# Altium footprint library minireg.PcbLib: 9 footprints
Each footprint in its own frame and in the unit in brackets; x right, y up, seen from the top. Pads: shape width x height; smd on the part's side, far side on the other; paste and mask are expansions set on the pad; w line width, h text height; cw(c..) or ccw(c..) is an arc to the next point about the centre after c.
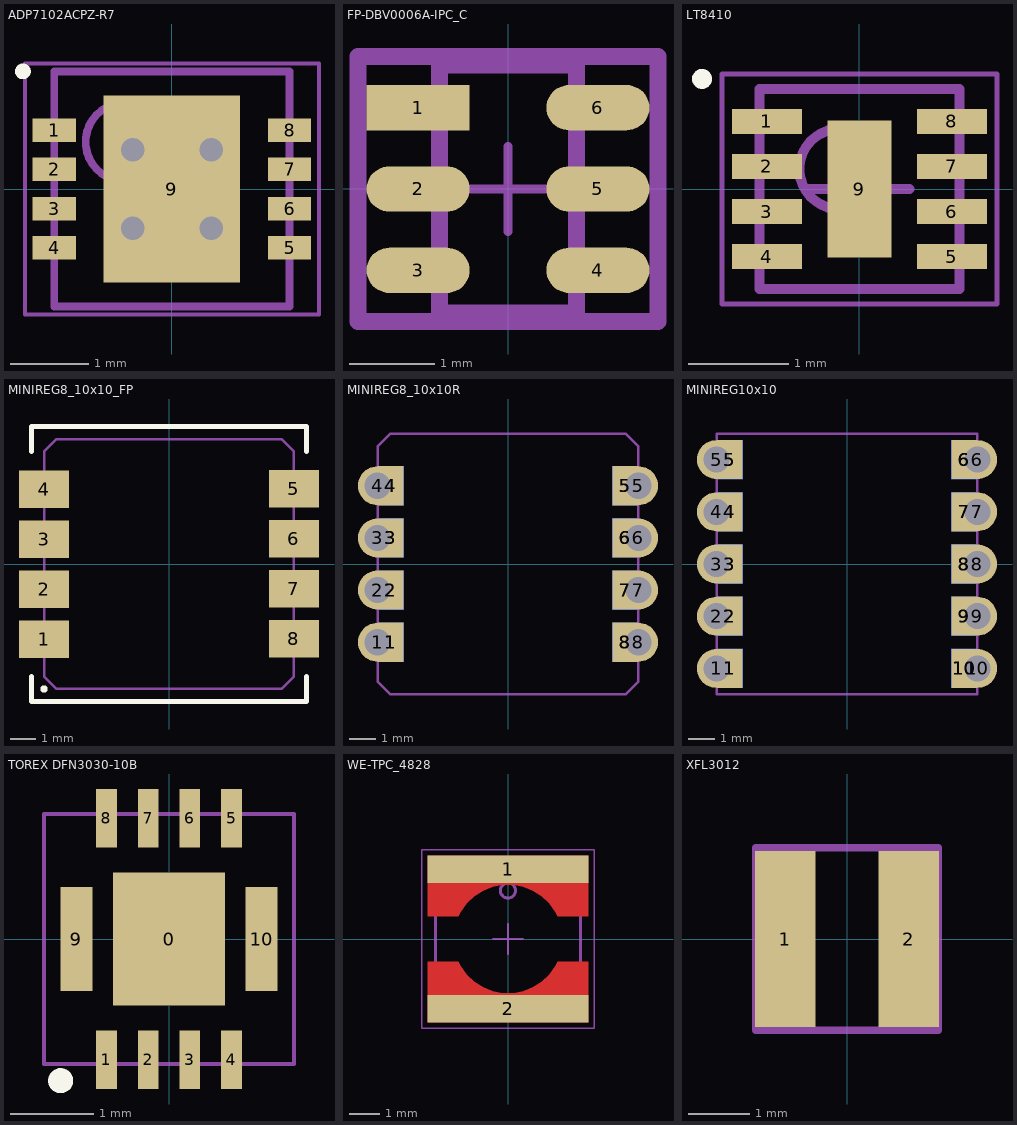
[diagram p0: the footprints below, top view; thin cyan lines are the x and y axes]

## ADP7102ACPZ-R7 [mm] "SON, 8-Leads, Body 3x3mm, Pitch 0.5mm, Thermal Pad 1.74x2.38mm"
height 0.8
pads (9):
  rect 0.55x0.3 smd mask+0.05: 1(-1.5,0.75) 2(-1.5,0.25) 3(-1.5,-0.25) 4(-1.5,-0.75) 5(1.5,-0.75) 6(1.5,-0.25) 7(1.5,0.25) 8(1.5,0.75)
  rect 1.74x2.38 smd mask+0.05: 9(0,0)
via -0.5,0.5 diameter 0.6 hole 0.3
via 0.5,0.5 diameter 0.6 hole 0.3
via -0.5,-0.5 diameter 0.6 hole 0.3
via 0.5,-0.5 diameter 0.6 hole 0.3
Top Overlay:
  circle w0.1: c-1.9,1.5 r0.05
Top Courtyard:
  lines w0.05: -1.875,-1.6 -1.875,1.6 1.875,1.6 1.875,-1.6 -1.875,-1.6
  lines w0.1: -0.5,0 0.5,0 ; 0,-0.5 0,0.5
Top 3D Body:
  circle w0.1: c-0.6,0.6 r0.5
  lines w0.1: -1.5,-1.5 -1.5,1.5 1.5,1.5 1.5,-1.5 -1.5,-1.5
3D body: height 0.8, standoff 0, extent -1.5,-1.5 1.5,1.5

## FP-DBV0006A-IPC_C [mm]
pads (6):
  rect 1.205x0.53 smd paste+0 mask+0: 1(-1.05,0.95)
  rrect100% 1.205x0.53 smd paste+0 mask+0: 2(-1.05,0) 3(-1.05,-0.95) 4(1.05,-0.95) 5(1.05,0) 6(1.05,0.95)
Top Courtyard:
  lines w0.2: -1.753,-1.55 -1.753,1.55 1.753,1.55 1.753,-1.55 -1.753,-1.55
Top Assembly:
  lines w0.2: -1.753,-1.55 -1.753,1.55 1.753,1.55 1.753,-1.55 -1.753,-1.55
Top 3D Body:
  lines w0.2: -0.8,-1.45 -0.8,1.45 0.8,1.45 0.8,-1.45 -0.8,-1.45
Top Component Center:
  lines w0.1: -0.5,0 0.5,0 ; 0,-0.5 0,0.5
3D body "IC_Texas_Instruments_LM74700QDBVRQ1_eec.STEP": height 0.25, standoff 0, extent -1.753,-1.55 1.753,1.55

## LT8410 [mm] "SON, 8-Leads, Body 2x2mm, Pitch 0.45mm, Thermal Pad 1.37x0.64mm, Recommended"
height 0.8
pads (9):
  rect 0.7x0.25 smd mask+0.05: 1(-0.925,0.675) 2(-0.925,0.225) 3(-0.925,-0.225) 4(-0.925,-0.675) 5(0.925,-0.675) 6(0.925,-0.225) 7(0.925,0.225) 8(0.925,0.675)
  rect 0.64x1.37 smd mask+0.05: 9(0,0)
Top Overlay:
  circle w0.1: c-1.574,1.1 r0.05
Top Courtyard:
  lines w0.05: -1.375,-1.15 1.375,-1.15 1.375,1.15 -1.375,1.15 -1.375,-1.15
  lines w0.1: -0.5,0 0.5,0 ; 0,-0.5 0,0.5
Top 3D Body:
  circle w0.1: c-0.2,0.2 r0.4
  lines w0.1: -1,-1 1,-1 1,1 -1,1 -1,-1
3D body: height 0.8, standoff 0, extent -1,-1 1,1

## MINIREG8_10x10_FP [mm] "8-pin 10x10mm castellated regulator board footprint"
pads (8):
  rect 2x1.5 smd: 1(-5,-3) 2(-5,-1) 3(-5,1) 4(-5,3) 5(5,3) 6(5,1) 7(5,-1) 8(5,-3)
Top Overlay:
  circle w0.15: c-5,-5 r0.075
  lines w0.2: -5.5,-4.5 -5.5,-5.5 5.5,-5.5 5.5,-4.5 ; -5.5,4.5 -5.5,5.5 5.5,5.5 5.5,4.5
  text ".VOUT" at 1.2,-7.3 h1
  text ".VIN" at -5.3,-7.3 h1
Top 3D Body:
  lines w0.1: -5,-4.5 -5,4.5 -4.5,5 4.5,5 5,4.5 5,-4.5 4.5,-5 -4.5,-5 -5,-4.5
3D body: height 4, standoff 0, extent -5,-5 5,5

## MINIREG8_10x10R [mm] "8-pin 10x10mm castellated regulator footprint"
pads (40):
  round 1.5 hole 1: 1(-5,-3) 2(-5,-1) 3(-5,1) 4(-5,3) 5(5,3) 6(5,1) 7(5,-1) 8(5,-3)
  rect 1x1.5 on Mid1: 1(-4.5,-3) 2(-4.5,-1) 3(-4.5,1) 4(-4.5,3) 5(4.5,3) 6(4.5,1) 7(4.5,-1) 8(4.5,-3)
  rect 1x1.5 smd: 1(-4.5,-3) 2(-4.5,-1) 3(-4.5,1) 4(-4.5,3) 5(4.5,3) 6(4.5,1) 7(4.5,-1) 8(4.5,-3)
  rect 1x1.5 smd far side: 1(-4.5,-3) 2(-4.5,-1) 3(-4.5,1) 4(-4.5,3) 5(4.5,3) 6(4.5,1) 7(4.5,-1) 8(4.5,-3)
  rect 1x1.5 on Mid2: 1(-4.5,-3) 2(-4.5,-1) 3(-4.5,1) 4(-4.5,3) 5(4.5,3) 6(4.5,1) 7(4.5,-1) 8(4.5,-3)
Mechanical 1:
  lines w0.1: -5,-4.5 -5,4.5 -4.5,5 4.5,5 5,4.5 5,-4.5 4.5,-5 -4.5,-5 -5,-4.5

## MINIREG10x10 [mm] "10x10 castellated regulator footprint"
pads (50):
  round 1.5 hole 1: 1(-5,-4) 2(-5,-2) 3(-5,0) 4(-5,2) 5(-5,4) 6(5,4) 7(5,2) 8(5,0) 9(5,-2) 10(5,-4)
  rect 1x1.5 on Mid1: 1(-4.5,-4) 2(-4.5,-2) 3(-4.5,0) 4(-4.5,2) 5(-4.5,4) 6(4.5,4) 7(4.5,2) 8(4.5,0) 9(4.5,-2) 10(4.5,-4)
  rect 1x1.5 smd paste-0.5: 1(-4.5,-4) 2(-4.5,-2) 3(-4.5,0) 4(-4.5,2) 5(-4.5,4) 6(4.5,4) 7(4.5,2) 8(4.5,0) 9(4.5,-2) 10(4.5,-4)
  rect 1x1.5 smd far side paste-0.5: 1(-4.5,-4) 2(-4.5,-2) 3(-4.5,0) 4(-4.5,2) 5(-4.5,4) 6(4.5,4) 7(4.5,2) 8(4.5,0) 9(4.5,-2) 10(4.5,-4)
  rect 1x1.5 on Mid2: 1(-4.5,-4) 2(-4.5,-2) 3(-4.5,0) 4(-4.5,2) 5(-4.5,4) 6(4.5,4) 7(4.5,2) 8(4.5,0) 9(4.5,-2) 10(4.5,-4)
Mechanical 1:
  lines w0.1: -5,-5 5,-5 5,5 -5,5 -5,-5

## TOREX DFN3030-10B [mm] "TOREX DFN3030-10B"
height 1.7
pads (11):
  rect 1.34x1.6 smd paste-2539.97 mask+0.05: 0(0,0)
  rect 0.25x0.7 smd mask+0.05: 1(-0.75,-1.45) 2(-0.25,-1.45) 3(0.25,-1.45) 4(0.75,-1.45) 5(0.75,1.45) 6(0.25,1.45) 7(-0.25,1.45) 8(-0.75,1.45)
  rect 0.38x1.25 smd mask+0.05: 9(-1.11,0) 10(1.11,0)
Top Overlay:
  circle w0.15: c-1.3,-1.7 r0.075
Top Paste:
  region: -0.2,0.7 -0.57,0.7 -0.57,-0.7 -0.2,-0.7
  rectangle: 0.2,-0.7 0.57,0.7
Top 3D Body:
  lines w0.05: -1.5,-1.5 -1.5,1.5 1.5,1.5 1.5,-1.5 -1.5,-1.5
3D body "XCL247B0K1H2-G.stp": height 1.65, standoff -0.01, extent -1.5,-1.51 1.5,1.51

## WE-TPC_4828 [mm] "Power Inductor, SMD, 2-Leads, body 4.8x4.8mm"
height 2.8
pads (2):
  rect 5.3x0.9 smd paste-403.566 mask-403.566: 1(0,2.3) 2(0,-2.3)
Top Layer:
  region: 2.65,-0.75 1.636,-0.75 1.558,-0.902 1.359,-1.18 1.112,-1.416 0.824,-1.6 0.506,-1.727 0.171,-1.792 -0.171,-1.792 -0.507,-1.727 -0.824,-1.6 -1.112,-1.416 -1.359,-1.18 -1.558,-0.902 -1.636,-0.75 -2.65,-0.75 -2.65,-2.75 2.65,-2.75
  region: -2.65,0.75 -1.636,0.75 -1.558,0.902 -1.359,1.18 -1.112,1.416 -0.824,1.6 -0.506,1.727 -0.171,1.792 0.171,1.792 0.507,1.727 0.824,1.6 1.112,1.416 1.359,1.18 1.558,0.902 1.636,0.75 2.65,0.75 2.65,2.75 -2.65,2.75
Top Courtyard:
  lines w0.05: -2.85,-2.95 -2.85,2.95 2.85,2.95 2.85,-2.95 -2.85,-2.95
Top Component Outline:
  circle w0.1: c0,1.6 r0.25
  lines w0.1: -2.4,-2.4 -2.4,2.4 2.4,2.4 2.4,-2.4 -2.4,-2.4
Top 3D Body:
  circle w0.1: c0,1.6 r0.25
  lines w0.1: -2.4,-2.4 -2.4,2.4 2.4,2.4 2.4,-2.4 -2.4,-2.4
Top Component Center:
  lines w0.05: -0.5,0 0.5,0 ; 0,-0.5 0,0.5
3D body "744043xxx.stp": height 2.8, standoff 0, extent -2.4,-2.4 2.4,2.4

## XFL3012 [mm]
pads (2):
  rect 1x2.9 smd: 1(-1.015,0) 2(1.015,0)
Mechanical 15:
  lines w0.127: -1.5,-1.5 1.5,-1.5 1.5,1.5 -1.5,1.5 -1.5,-1.5
3D body: height 1.3, standoff 0, extent -1.5,-1.5 1.5,1.5